# Altium footprint library PcbLib1.PcbLib: 35 footprints (part 2 of 3)
Each footprint in its own frame and in the unit in brackets; x right, y up, seen from the top. Pads: shape width x height; smd on the part's side, far side on the other; paste and mask are expansions set on the pad; w line width, h text height; cw(c..) or ccw(c..) is an arc to the next point about the centre after c.
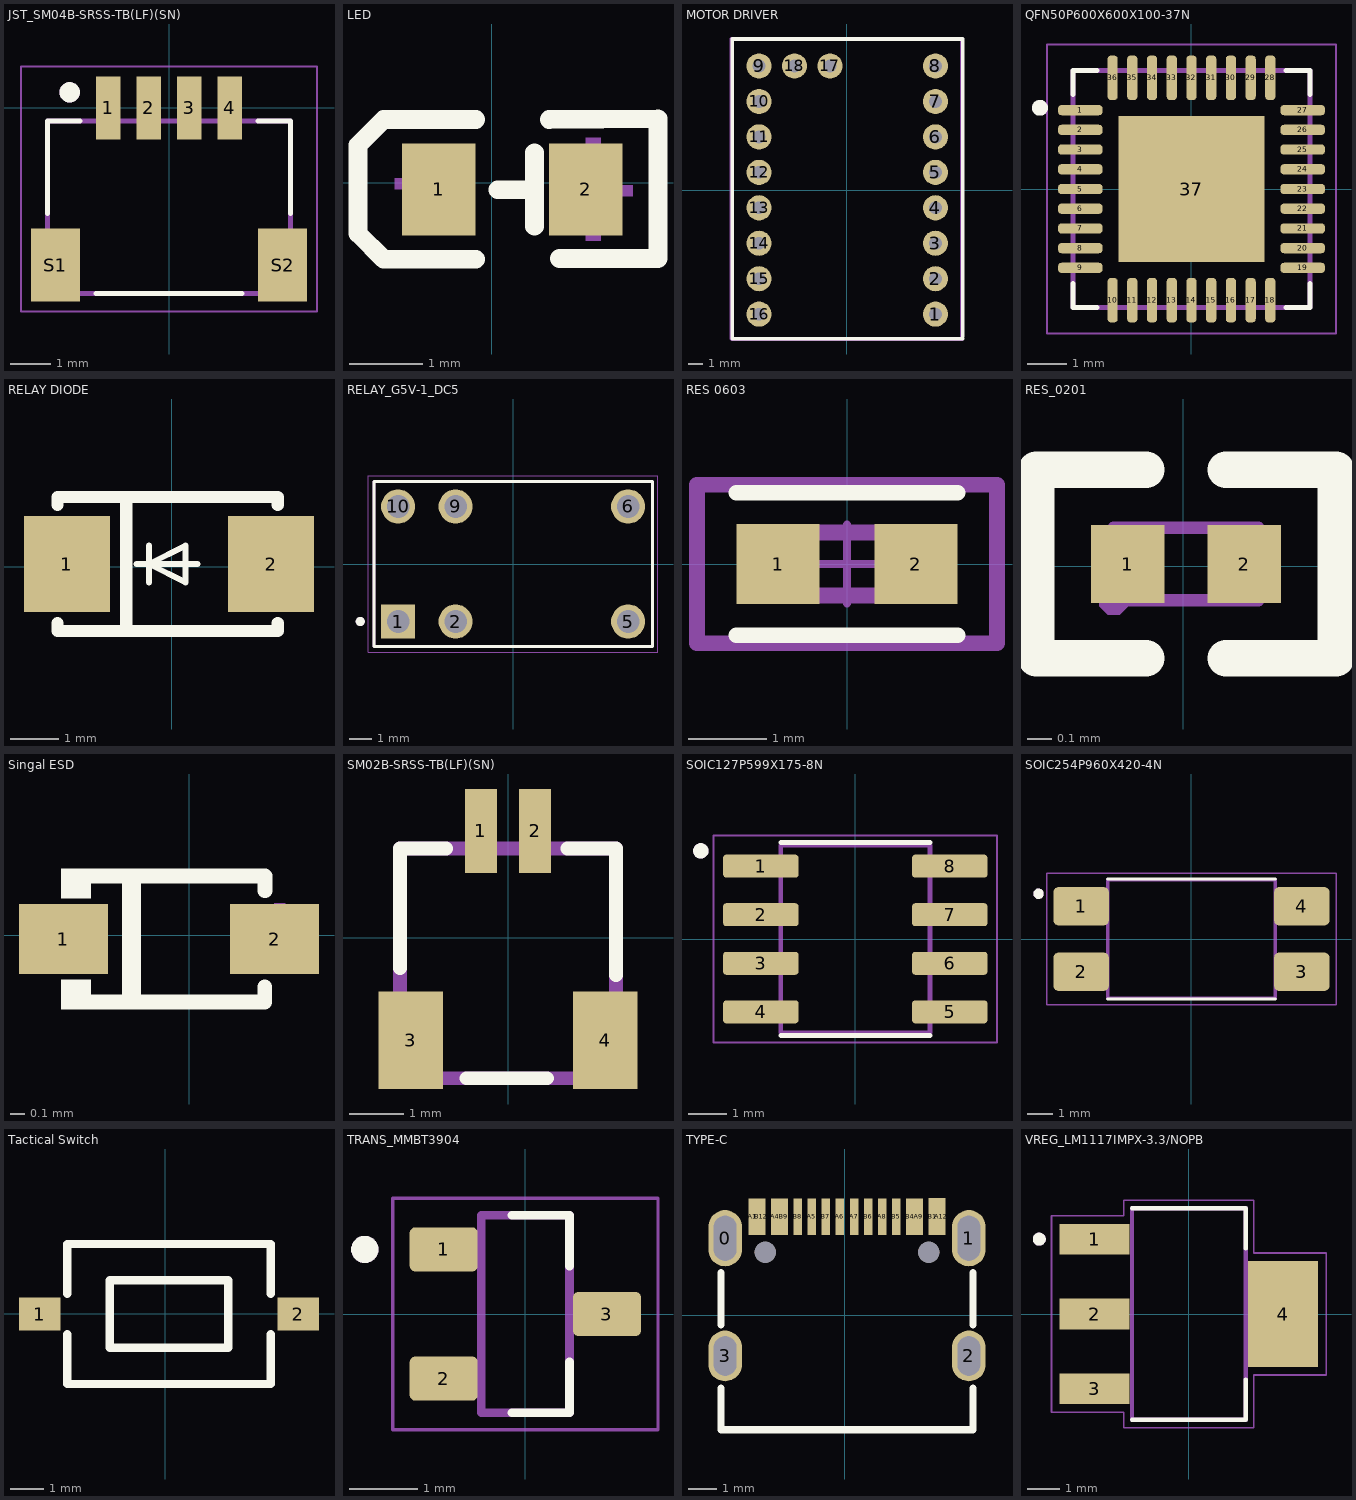
[diagram p1: the footprints below, top view; thin cyan lines are the x and y axes]

## JST_SM04B-SRSS-TB(LF)(SN) [mm]
pads (6):
  rect 0.6x1.55 smd: 1(-1.5,0) 2(-0.5,0) 3(0.5,0) 4(1.5,0)
  rect 1.2x1.8 smd: S1(-2.8,-3.875) S2(2.8,-3.875)
Top Overlay:
  circle w0.3: c-2.45,0.385 r0.1
  lines w0.127: -3,-2.6 -3,-0.325 -2.2,-0.325 ; -1.8,-4.575 1.8,-4.575 ; 2.2,-0.325 3,-0.325 3,-2.6
Mechanical 13:
  circle w0.3: c-2.45,0.385 r0.1
  lines w0.127: -3,-4.575 3,-4.575 3,-0.325 -3,-0.325 -3,-4.575
Mechanical 15:
  lines w0.05: -3.65,-5.025 3.65,-5.025 3.65,1.025 -3.65,1.025 -3.65,-5.025
3D body "step_temp.STEP": height 2.93, standoff -0.03, extent -3,-3.895 3,1.054

## LED [mm]
pads (2):
  rect 1x1.25 smd paste+0 mask+0.051: 1(-0.718,-0.091) 2(1.282,-0.091)
Top Overlay:
  lines w0.254: -0.218,-1.041 -1.468,-1.041 ; -0.218,0.859 -1.468,0.859 ; 0.082,-0.096 0.582,-0.096 ; 0.582,-0.591 0.582,0.409 ; 0.782,0.859 2.262,0.869 2.262,-1.031 0.922,-1.031 ; -1.468,-1.041 -1.818,-0.691 -1.818,0.509 -1.468,0.859 ; -1.468,-1.041 -1.468,-1.041 ; -1.468,0.859 -1.468,0.859
Mechanical 15:
  region: -1.318,-0.091 -0.318,-0.091 -0.318,0.059 -1.318,0.059
  region: 0.916,-0.186 1.916,-0.186 1.916,-0.036 0.916,-0.036
  region: 1.282,0.609 1.482,0.609 1.482,-0.791 1.282,-0.791

## MOTOR DRIVER [mm]
pads (18):
  round 1.8 hole 0.914 paste-2539.97 mask+0.051: 1(6.371,-8.89) 2(6.371,-6.35) 3(6.371,-3.81) 4(6.371,-1.27) 5(6.371,1.27) 6(6.371,3.81) 7(6.371,6.35) 8(6.371,8.89) 9(-6.269,8.89) 10(-6.269,6.35) 11(-6.269,3.81) 12(-6.269,1.27) 13(-6.269,-1.27) 14(-6.269,-3.81) 15(-6.269,-6.35) 16(-6.269,-8.89) 17(-1.189,8.89) 18(-3.729,8.89)
Top Overlay:
  lines w0.254: 8.327,-10.643 -8.183,-10.643 -8.183,10.82 8.327,10.82 8.327,-10.516
Top Assembly:
  lines w0.254: 8.25,-10.643 -8.26,-10.643 -8.26,10.82 8.25,10.82 8.25,-10.516 ; 8.276,-10.668 -8.234,-10.668 -8.234,10.795 8.276,10.795 8.276,-10.541
3D body "3D_PCB1_2026-04-21.STEPN.STEP": height 11.3, standoff -0.4, extent -7.636,-10.03 7.604,10.29

## QFN50P600X600X100-37N [mm]
pads (37):
  rrect70% 1.13x0.26 smd: 1(-2.82,2) 2(-2.82,1.5) 3(-2.82,1) 4(-2.82,0.5) 5(-2.82,0) 6(-2.82,-0.5) 7(-2.82,-1) 8(-2.82,-1.5) 9(-2.82,-2) 19(2.82,-2) 20(2.82,-1.5) 21(2.82,-1) 22(2.82,-0.5) 23(2.82,0) 24(2.82,0.5) 25(2.82,1) 26(2.82,1.5) 27(2.82,2)
  rrect70% 0.26x1.13 smd: 10(-2,-2.82) 11(-1.5,-2.82) 12(-1,-2.82) 13(-0.5,-2.82) 14(0,-2.82) 15(0.5,-2.82) 16(1,-2.82) 17(1.5,-2.82) 18(2,-2.82) 28(2,2.82) 29(1.5,2.82) 30(1,2.82) 31(0.5,2.82) 32(0,2.82) 33(-0.5,2.82) 34(-1,2.82) 35(-1.5,2.82) 36(-2,2.82)
  rect 3.7x3.7 smd paste-0.677: 37(0,0)
Top Overlay:
  circle w0.2: c-3.843,2.058 r0.1
  lines w0.127: -3,-2.4 -3,-3 -2.4,-3 ; -3,2.4 -3,3 -2.4,3 ; 2.4,-3 3,-3 3,-2.4 ; 2.4,3 3,3 3,2.4
Mechanical 13:
  lines w0.127: -3,-3 -3,3 3,3 3,-3 -3,-3
Mechanical 15:
  lines w0.05: -3.665,-3.665 -3.665,3.665 3.665,3.665 3.665,-3.665 -3.665,-3.665
3D body "step_temp.STEP": height 1, standoff 0, extent -3,-3 3,3

## RELAY DIODE [mm]
pads (2):
  rect 1.8x2 smd paste+0 mask+0.05: 1(-2.188,0.054) 2(2.071,0.054)
Top Overlay:
  lines w0.127: -0.731,0.054 0.539,0.054 ; -0.477,-0.327 -0.477,0.054 ; -0.477,0.435 -0.477,0.054 ; -0.477,0.054 0.285,0.435 0.285,0.054 0.285,-0.327 -0.477,0.054
  lines w0.254: -2.388,-1.177 -2.388,-1.346 2.212,-1.346 2.212,-1.177 ; -2.388,1.285 -2.388,1.454 2.212,1.454 2.212,1.285 ; -0.952,-1.346 -0.952,1.454
Mechanical 15:
  region: 1.309,0.181 2.706,0.181 2.706,-0.073 1.309,-0.073
  region: 1.88,-0.645 1.88,0.752 2.134,0.752 2.134,-0.645
  region: -2.882,0.181 -1.485,0.181 -1.485,-0.073 -2.882,-0.073
3D body "1N4007W--3DModel-STEP-56544.STEP": height 1.31, standoff 0.01, extent -2.002,-0.849 1.798,0.951

## RELAY_G5V-1_DC5 [mm]
height 9.9
pads (6):
  rect 1.508x1.508 / inner round 1.508 / far side rect 1.508x1.508 hole 1: 1(-5.08,-2.54)
  round 1.508 hole 1: 2(-2.54,-2.54) 5(5.08,-2.54) 6(5.08,2.54) 9(-2.54,2.54) 10(-5.08,2.54)
Top Overlay:
  circle w0.2: c-6.75,-2.54 r0.1
  lines w0.127: -6.15,-3.65 6.15,-3.65 6.15,3.65 -6.15,3.65 -6.15,-3.65
Mechanical 13:
  circle w0.2: c-6.75,-2.54 r0.1
  lines w0.127: -6.15,-3.65 6.15,-3.65 6.15,3.65 -6.15,3.65 -6.15,-3.65
Mechanical 15:
  lines w0.05: -6.4,-3.9 6.4,-3.9 6.4,3.9 -6.4,3.9 -6.4,-3.9
3D body "step_temp.STEP": height 10, standoff -3.5, extent -6.25,-3.75 6.25,3.75

## RES 0603 [mm]
pads (2):
  rect 1.059x1.012 smd paste+0 mask+0: 1(-0.877,0) 2(0.877,0)
Top Overlay:
  lines w0.2: -1.406,-0.906 1.406,-0.906 ; -1.406,0.906 1.406,0.906
Top 3D Body:
  lines w0.2: -0.8,-0.4 -0.8,0.4 0.8,0.4 0.8,-0.4 -0.8,-0.4
Top Courtyard:
  lines w0.2: -1.906,-1.006 -1.906,1.006 1.906,1.006 1.906,-1.006 -1.906,-1.006
Top Assembly:
  lines w0.2: -1.906,-1.006 -1.906,1.006 1.906,1.006 1.906,-1.006 -1.906,-1.006
Top Component Center:
  lines w0.1: -0.5,0 0.5,0 ; 0,-0.5 0,0.5
3D body "Res_Yageo_AC0603FR-07180RL_eec.STEP": height 0.25, standoff 0, extent -1.906,-1.006 1.906,1.006

## RES_0201 [mm]
pads (2):
  rect 0.303x0.324 smd paste-100 mask+0.051: 1(-0.229,0.01) 2(0.254,0.01)
Top Overlay:
  lines w0.152: -0.154,-0.381 -0.61,-0.381 -0.61,0.4 -0.154,0.4 ; 0.178,-0.381 0.634,-0.381 0.634,0.4 0.178,0.4
Top Paste:
  region: 0.093,-0.128 0.093,0.148 0.117,0.172 0.381,0.172 0.405,0.148 0.405,-0.128 0.381,-0.152 0.117,-0.152
  region: -0.069,-0.128 -0.069,0.148 -0.093,0.172 -0.357,0.172 -0.381,0.148 -0.381,-0.128 -0.357,-0.152 -0.093,-0.152
Mechanical 15:
  region: -0.288,-0.14 -0.288,0.16 -0.138,0.16 -0.138,-0.14
  region: 0.312,-0.14 0.312,0.16 0.162,0.16 0.162,-0.14
  region: -0.228,-0.14 -0.228,-0.165 -0.263,-0.2 -0.313,-0.2 -0.348,-0.165 -0.348,-0.14 -0.348,-0.116 -0.313,-0.08 -0.263,-0.08 -0.228,-0.116
  lines w0.051: -0.288,-0.14 -0.288,0.16 0.312,0.16 0.312,-0.14 -0.288,-0.14
3D body "3D_PCB8_2026-04-29.SLDASMN.STEP": height 0.24, standoff 0, extent -0.237,-0.13 0.363,0.171

## Singal ESD [mil]
pads (2):
  rect 24x19 smd: 1(-34,-1) 2(23,-1)
Top Overlay:
  region: -18.09,-17.5 -18.09,15.5 -13.09,15.5 -13.09,-17.5
  region: -26.59,18 -30.59,18 -34.59,18 -34.59,10 -26.59,10
  region: -26.59,-12 -30.59,-12 -34.59,-12 -34.59,-20 -26.59,-20
  lines w3.94: -31.59,16 20.41,16 20.41,12 ; 20.41,-13.84 20.41,-18 -31.59,-18 ; -31.59,-18 -31.59,-18
Mechanical 15:
  region: -40.59,3.16 -24.59,3.16 -24.59,-0.84 -40.59,-0.84
  region: 16.41,2.16 33.41,2.16 33.41,-0.84 16.41,-0.84
  region: 22.91,-8.34 22.91,8.66 25.91,8.66 25.91,-8.34

## SM02B-SRSS-TB(LF)(SN) [mm]
pads (4):
  rect 0.6x1.55 smd paste+0 mask+0.102: 1(-0.5,1.975) 2(0.5,1.975)
  rect 1.2x1.8 smd paste+0 mask+0.102: 3(-1.8,-1.9) 4(1.8,-1.9)
Top Overlay:
  lines w0.254: -2,-0.563 -2,1.65 -1.145,1.65 ; -0.767,-2.6 0.722,-2.6 ; 1.1,1.65 2,1.65 2,-0.697
Mechanical 13:
  lines w0.254: -2,-2.6 -2,1.65 2,1.65 2,-2.6 -2,-2.6
3D body "step_temp.STEP": height 2.95, standoff 0, extent -2,-2.475 2,2.475

## SOIC127P599X175-8N [mm]
pads (8):
  rrect25% 1.97x0.6 smd: 1(-2.47,1.905) 2(-2.47,0.635) 3(-2.47,-0.635) 4(-2.47,-1.905) 5(2.47,-1.905) 6(2.47,-0.635) 7(2.47,0.635) 8(2.47,1.905)
Top Overlay:
  circle w0.2: c-4.04,2.305 r0.1
  lines w0.127: -1.95,-2.525 1.95,-2.525 ; -1.95,2.525 1.95,2.525
Mechanical 13:
  circle w0.2: c-4.04,2.305 r0.1
  lines w0.127: -1.95,-2.452 1.95,-2.452 1.95,2.452 -1.95,2.452 -1.95,-2.452
Mechanical 15:
  lines w0.05: -3.705,-2.702 3.705,-2.702 3.705,2.702 -3.705,2.702 -3.705,-2.702
3D body "step_temp.STEP": height 1.75, standoff 0, extent -2.995,-2.452 2.995,2.452

## SOIC254P960X420-4N [mm]
height 4.2
pads (4):
  rrect25% 2.15x1.48 smd paste+0 mask+0.102: 1(-4.28,1.27) 2(-4.28,-1.27) 3(4.28,-1.27) 4(4.28,1.27)
Top Overlay:
  circle w0.2: c-5.93,1.755 r0.1
  lines w0.127: -3.25,-2.33 3.25,-2.33 ; -3.25,2.33 3.25,2.33
Mechanical 13:
  circle w0.2: c-5.93,1.755 r0.1
  lines w0.127: -3.25,-2.3 3.25,-2.3 3.25,2.3 -3.25,2.3 -3.25,-2.3
Mechanical 15:
  lines w0.05: -5.605,-2.55 5.605,-2.55 5.605,2.55 -5.605,2.55 -5.605,-2.55
3D body "step_temp.STEP": height 4.2, standoff 0, extent -4.8,-2.3 4.8,2.3

## Tactical Switch [mm]
pads (2):
  rect 1.25x1 smd paste+0 mask+0.051: 1(-3.761,-0.015) 2(3.989,-0.015)
Top Overlay:
  lines w0.254: -2.936,-0.628 -2.936,-2.115 3.164,-2.115 3.164,-0.628 ; -2.936,0.598 -2.936,2.085 3.164,2.085 3.164,0.598 ; -1.664,-1.031 1.892,-1.031 1.892,1.001 -1.664,1.001 -1.664,-1.031
3D body "3D_PCB7_2026-04-28.SLDASMN.SLDASMN.STEP": height 2.55, standoff 0, extent -3.974,-2.213 4.026,1.987

## TRANS_MMBT3904 [mm]
height 1.2
pads (3):
  rrect25% 1x0.65 smd paste+0 mask+0.102: 1(-1.2,0.95) 2(-1.2,-0.95) 3(1.2,0)
Top Overlay:
  circle w0.2: c-2.36,0.95 r0.1
  lines w0.127: -0.2,-1.45 0.65,-1.45 0.65,-0.7 ; -0.2,1.45 0.65,1.45 0.65,0.7
Mechanical 13:
  circle w0.2: c-2.36,0.95 r0.1
  lines w0.127: -0.65,-1.45 0.65,-1.45 0.65,1.45 -0.65,1.45 -0.65,-1.45
Mechanical 15:
  lines w0.05: -1.95,-1.7 1.95,-1.7 1.95,1.7 -1.95,1.7 -1.95,-1.7
3D body "step_temp.STEP": height 1.3, standoff 0, extent -1.3,-1.52 1.3,1.52

## TYPE-C [mm]
pads (22):
  oval 1.2x2 hole 0.8 slot 1.6 at 90 deg paste-2539.97 mask+0.051: 0(-4.241,2.736) 1(4.409,2.736)
  oval 1.2x1.8 hole 0.8 slot 1.4 at 90 deg paste-2539.97 mask+0.051: 2(4.409,-1.444) 3(-4.241,-1.444)
  rect 0.3x1.3 smd paste-100 mask+0.051: A1(-3.266,3.504) A4(-2.466,3.504) A5(-1.166,3.504) A6(-0.166,3.504) A7(0.334,3.504) A8(1.334,3.504) A9(2.634,3.504) A12(3.434,3.504) B1(3.134,3.504) B4(2.334,3.504) B5(1.834,3.504) B6(0.834,3.504) B7(-0.666,3.504) B8(-1.666,3.504) B9(-2.166,3.504) B12(-2.966,3.504)
  round 0.75 hole 0.75 unplated paste-2539.97: ""(-2.816,2.236) ""(2.984,2.236)
Top Overlay:
  lines w0.254: -4.385,-2.583 -4.385,-4.064 4.555,-4.064 4.555,-2.582 ; -4.385,-0.346 -4.385,1.517 ; 4.555,-0.346 4.555,1.518
Top Paste:
  drawing of 16 lines, arcs and shapes, not listed
Mechanical 15:
  circle w0.25: c-2.816,2.236 r0.125
  circle w0.25: c2.984,2.236 r0.125
3D body "3D_PCB7_2026-04-28.step1.STEPN.STEP": height 3.3, standoff -0.8, extent -4.242,-4.021 4.698,3.879

## VREG_LM1117IMPX-3.3/NOPB [mm]
height 1.8
pads (4):
  rect 2.15x0.95 smd: 1(-2.9,2.3) 2(-2.9,0) 3(-2.9,-2.3)
  rect 2.15x3.25 smd: 4(2.9,0)
Top Overlay:
  circle w0.2: c-4.6,2.3 r0.1
  lines w0.127: -1.75,-3.25 1.75,-3.25 1.75,-2.01 ; -1.75,3.25 1.75,3.25 1.75,2.01
Mechanical 13:
  circle w0.2: c-4.6,2.3 r0.1
  lines w0.127: -1.75,-3.25 1.75,-3.25 1.75,3.25 -1.75,3.25 -1.75,-3.25
Mechanical 15:
  lines w0.05: -4.225,-3.025 -2,-3.025 -2,-3.5 2,-3.5 2,-1.875 4.225,-1.875 4.225,1.875 2,1.875 2,3.5 -2,3.5 -2,3.025 -4.225,3.025 -4.225,-3.025
3D body "step_temp.STEP": height 1.8, standoff 0, extent -3.499,-3.25 3.499,3.25